# Altium footprint library Samtec.PcbLib: 6 footprints
Each footprint in its own frame and in the unit in brackets; x right, y up, seen from the top. Pads: shape width x height; smd on the part's side, far side on the other; paste and mask are expansions set on the pad; w line width, h text height; cw(c..) or ccw(c..) is an arc to the next point about the centre after c.
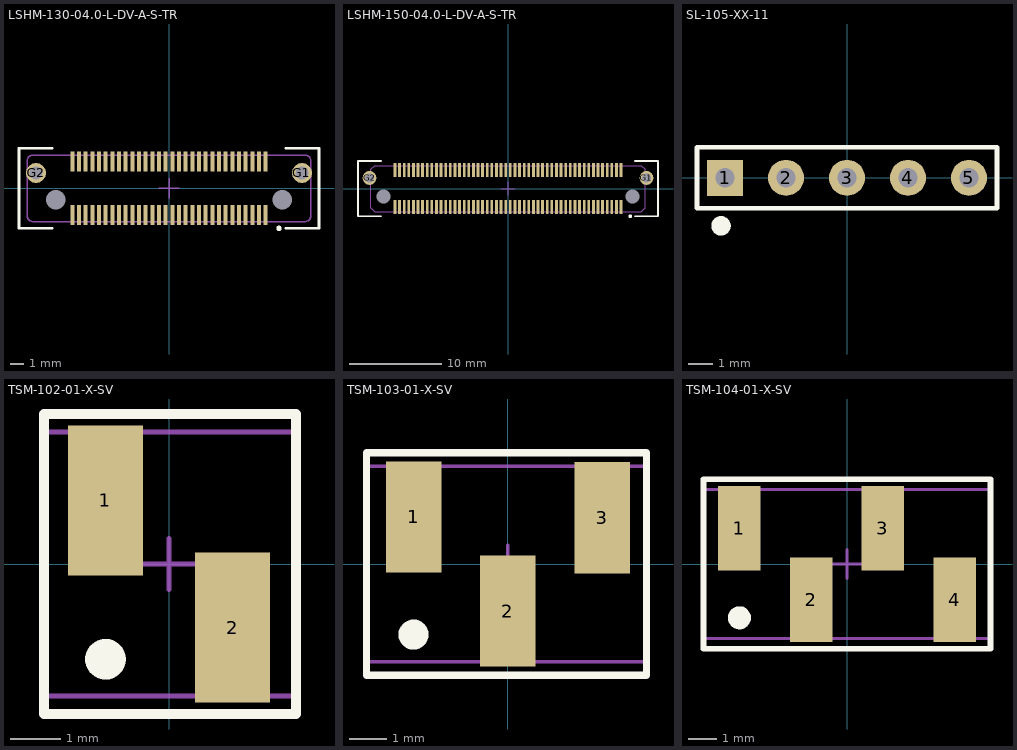
[diagram p0: the footprints below, top view; thin cyan lines are the x and y axes]

## LSHM-130-04.0-L-DV-A-S-TR [mm] "Hermaphroditic Terminal/Socket Strip, 2x30 Positions, Pitch 0.5mm"
pads (64):
  rect 0.3x1.5 smd mask+0.05: 1(7.25,-2) 2(7.25,2) 3(6.75,-2) 4(6.75,2) 5(6.25,-2) 6(6.25,2) 7(5.75,-2) 8(5.75,2) 9(5.25,-2) 10(5.25,2) 11(4.75,-2) 12(4.75,2) 13(4.25,-2) 14(4.25,2) 15(3.75,-2) 16(3.75,2) 17(3.25,-2) 18(3.25,2) 19(2.75,-2) 20(2.75,2) 21(2.25,-2) 22(2.25,2) 23(1.75,-2) 24(1.75,2) 25(1.25,-2) 26(1.25,2) 27(0.75,-2) 28(0.75,2) 29(0.25,-2) 30(0.25,2) 31(-0.25,-2) 32(-0.25,2) 33(-0.75,-2) 34(-0.75,2) 35(-1.25,-2) 36(-1.25,2) 37(-1.75,-2) 38(-1.75,2) 39(-2.25,-2) 40(-2.25,2) 41(-2.75,-2) 42(-2.75,2) 43(-3.25,-2) 44(-3.25,2) 45(-3.75,-2) 46(-3.75,2) 47(-4.25,-2) 48(-4.25,2) 49(-4.75,-2) 50(-4.75,2) 51(-5.25,-2) 52(-5.25,2) 53(-5.75,-2) 54(-5.75,2) 55(-6.25,-2) 56(-6.25,2) 57(-6.75,-2) 58(-6.75,2) 59(-7.25,-2) 60(-7.25,2)
  round 1.5 hole 1 unplated: G1(9.975,1.15)
  round 1.5 hole 1 mask+0.075: G2(-9.975,1.15)
  round 0 hole 1.45 unplated: MH1(8.5,-0.85) MH2(-8.5,-0.85)
Top Overlay:
  circle w0.2: c8.25,-3 r0.1
  lines w0.2: -8.75,-3 -11.25,-3 -11.25,3 -8.75,3 ; 8.75,-3 11.25,-3 11.25,3 8.75,3
Mechanical 13:
  lines w0.1: -10.625,-2.09 ccw(c-10.225,-2.09) -10.225,-2.49 10.225,-2.49 ccw(c10.225,-2.09) 10.625,-2.09 10.625,2.09 ccw(c10.225,2.09) 10.225,2.49 -10.225,2.49 ccw(c-10.225,2.09) -10.625,2.09 -10.625,-2.09
Mechanical 15:
  lines w0.1: -0.75,0 0.75,0 ; 0,-0.75 0,0.75
3D body "LSHM-130-04.0-L-DV-A-S-TR.stp": height 5.45, standoff -1.65, extent -10.399,-2.49 10.4,2.49

## LSHM-150-04.0-L-DV-A-S-TR [mm] "Hermaphroditic Terminal/Socket Strip, 2x50 Positions, Pitch 0.5mm"
pads (104):
  rect 0.3x1.5 smd mask+0.05: 1(12.25,-2) 2(12.25,2) 3(11.75,-2) 4(11.75,2) 5(11.25,-2) 6(11.25,2) 7(10.75,-2) 8(10.75,2) 9(10.25,-2) 10(10.25,2) 11(9.75,-2) 12(9.75,2) 13(9.25,-2) 14(9.25,2) 15(8.75,-2) 16(8.75,2) 17(8.25,-2) 18(8.25,2) 19(7.75,-2) 20(7.75,2) 21(7.25,-2) 22(7.25,2) 23(6.75,-2) 24(6.75,2) 25(6.25,-2) 26(6.25,2) 27(5.75,-2) 28(5.75,2) 29(5.25,-2) 30(5.25,2) 31(4.75,-2) 32(4.75,2) 33(4.25,-2) 34(4.25,2) 35(3.75,-2) 36(3.75,2) 37(3.25,-2) 38(3.25,2) 39(2.75,-2) 40(2.75,2) 41(2.25,-2) 42(2.25,2) 43(1.75,-2) 44(1.75,2) 45(1.25,-2) 46(1.25,2) 47(0.75,-2) 48(0.75,2) 49(0.25,-2) 50(0.25,2) 51(-0.25,-2) 52(-0.25,2) 53(-0.75,-2) 54(-0.75,2) 55(-1.25,-2) 56(-1.25,2) 57(-1.75,-2) 58(-1.75,2) 59(-2.25,-2) 60(-2.25,2) 61(-2.75,-2) 62(-2.75,2) 63(-3.25,-2) 64(-3.25,2) 65(-3.75,-2) 66(-3.75,2) 67(-4.25,-2) 68(-4.25,2) 69(-4.75,-2) 70(-4.75,2) 71(-5.25,-2) 72(-5.25,2) 73(-5.75,-2) 74(-5.75,2) 75(-6.25,-2) 76(-6.25,2) 77(-6.75,-2) 78(-6.75,2) 79(-7.25,-2) 80(-7.25,2) 81(-7.75,-2) 82(-7.75,2) 83(-8.25,-2) 84(-8.25,2) 85(-8.75,-2) 86(-8.75,2) 87(-9.25,-2) 88(-9.25,2) 89(-9.75,-2) 90(-9.75,2) 91(-10.25,-2) 92(-10.25,2) 93(-10.75,-2) 94(-10.75,2) 95(-11.25,-2) 96(-11.25,2) 97(-11.75,-2) 98(-11.75,2) 99(-12.25,-2) 100(-12.25,2)
  round 1.5 hole 1 mask+0.075: G1(15,1.15) G2(-15,1.15)
  round 0 hole 1.5 unplated: MH1(13.5,-0.85) MH2(-13.5,-0.85)
Top Overlay:
  circle w0.2: c13.25,-3 r0.1
  lines w0.2: -13.75,-3 -16.25,-3 -16.25,3 -13.75,3 ; 13.75,-3 16.25,-3 16.25,3 13.75,3
Mechanical 13:
  lines w0.1: -14.85,-2.09 -14.45,-2.49 14.45,-2.49 14.85,-2.09 14.85,2.09 14.45,2.49 -14.45,2.49 -14.85,2.09 -14.85,-2.09
Mechanical 15:
  lines w0.1: -0.75,0 0.75,0 ; 0,-0.75 0,0.75
3D body "LSHM-150-04.0-L-DV-A-S-TR.stp": height 5.45, standoff -1.65, extent -15.399,-2.49 15.399,2.49

## SL-105-XX-11 [mm] "Socket, SMD, precision contact"
pads (5):
  rect 1.5x1.5 hole 0.8: 1(-5.08,0)
  round 1.5 hole 0.8: 2(-2.54,0) 3(0,0) 4(2.54,0) 5(5.08,0)
Top Overlay:
  circle w0.406: c-5.25,-2 r0.203
  lines w0.2: 6.25,-1.27 -6.25,-1.27 -6.25,1.27 6.25,1.27 6.25,-1.25
3D body "SL-105-G-11.stp": height 1.98, standoff -4.11, extent -6.35,-1.27 6.35,1.27

## TSM-102-01-X-SV [mm] "Header, SMD, alternating pins"
pads (2):
  rect 1.5x3 smd: 1(-1.27,1.27) 2(1.27,-1.27)
Top Overlay:
  circle w0.406: c-1.27,-1.905 r0.203
  lines w0.2: -2.5,-3 2.54,-3 2.54,3 -2.5,3 -2.5,-3
Mechanical 13:
  lines w0.1: -2.5,-2.642 2.54,-2.642 2.54,2.642 -2.5,2.642
Mechanical 15:
  lines w0.05: -2.54,-2.921 -2.54,2.921
  lines w0.1: -0.508,0 0.508,0 ; 0,-0.508 0,0.508
3D body "TSM-102-01-T-SV.stp": height 9.68, standoff 0.03, extent -2.54,-2.642 2.54,2.642

## TSM-103-01-X-SV [mm] "Header, SMD, alternating pins"
pads (3):
  rect 1.5x3 smd: 1(-2.54,1.27) 2(0,-1.27) 3(2.56,1.25)
Top Overlay:
  circle w0.406: c-2.54,-1.905 r0.203
  lines w0.2: -3.81,-3 3.75,-3 3.75,3 -3.81,3 -3.81,-3
Mechanical 13:
  lines w0.1: -3.77,-2.642 3.75,-2.642 3.75,2.642 -3.77,2.642 -3.77,-2.642
Mechanical 15:
  lines w0.1: -0.508,0 0.508,0 ; 0,-0.508 0,0.508
3D body "TSM-103-01-T-SV.stp": height 9.68, standoff 0.03, extent -3.83,-2.642 3.79,2.641

## TSM-104-01-X-SV [mm] "Header, SMD, alternating pins"
pads (4):
  rect 1.5x3 smd: 1(-3.81,1.27) 2(-1.27,-1.27) 3(1.27,1.27) 4(3.81,-1.27)
Top Overlay:
  circle w0.406: c-3.81,-1.905 r0.203
  lines w0.2: -5.08,-3 5.08,-3 5.08,3 -5.08,3 -5.08,-3
Mechanical 13:
  lines w0.1: -5.08,-2.642 -5.08,2.642 5.08,2.642 5.08,-2.642 -5.08,-2.642
Mechanical 15:
  lines w0.1: -0.508,0 0.508,0 ; 0,-0.508 0,0.508
3D body "TSM-102-01-T-SV.stp": height 9.68, standoff 0.03, extent -5.08,-2.642 0,2.642
3D body "TSM-102-01-T-SV.stp": height 9.68, standoff 0.03, extent 0,-2.642 5.08,2.642